# Altium schematic symbol library MFR1WSFBE52-1K.SchLib: 1 symbol
Pins are listed as number, name and electrical type; pins without a type are passive.

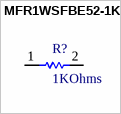
[diagram p0: symbol MFR1WSFBE52-1K]

## MFR1WSFBE52-1K
designator R?, comment 1KOhms
1 kOhms ±1% 1W Through Hole Resistor Axial Metal Film
footprint PCBComponent_1
pins: 1, 2